# EAGLE library part TJA1057GTK_3Z (library TJA1057GTK_3Z)
CAN Interface IC High-speed CAN transceiver Source: Datasheet <http://www.nxp.com/docs/en/data-sheet/TJA1057.pdf>
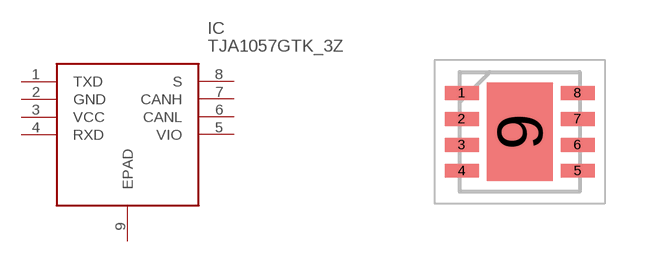
[diagram p0: symbol with the pads of SON65P300X300X100-9N; footprint SON65P300X300X100-9N]

Designator prefix IC

## TJA1057GTK_3Z (Arrow_Part_Number: TJA1057GTK/3Z; Arrow_Price-Stock: https://www.arrow.com/en/products/tja1057gtk3z/nxp-semiconductors?region=nac; Description: CAN Interface IC High-speed CAN transceiver; Height: 1mm; Manufacturer_Name: NXP; Manufacturer_Part_Number: TJA1057GTK/3Z; Mouser_Part_Number: 771-TJA1057GTK/3Z; Mouser_Price-Stock: https://www.mouser.co.uk/ProductDetail/NXP-Semiconductors/TJA1057GTK-3Z?qs=gH1BdSMZm8XBUj89vken9w%3D%3D)  [SON65P300X300X100-9N]
1  TXD
2  GND
3  VCC
4  RXD
5  VIO
6  CANL
7  CANH
8  S
9  EPAD

## Footprint SON65P300X300X100-9N (pad centres in mm)
HVSON8(SOT-782-1)
smd 0.85 x 0.35: 1 -1.45,0.975; 2 -1.45,0.325; 3 -1.45,-0.325; 4 -1.45,-0.975; 5 1.45,-0.975; 6 1.45,-0.325; 7 1.45,0.325; 8 1.45,0.975
smd 1.65 x 2.45: 9 0,0